# Altium schematic symbol library APM32F103VET6原理图库.SchLib: 12 symbols
Pins are listed as number, name and electrical type; pins without a type are passive.

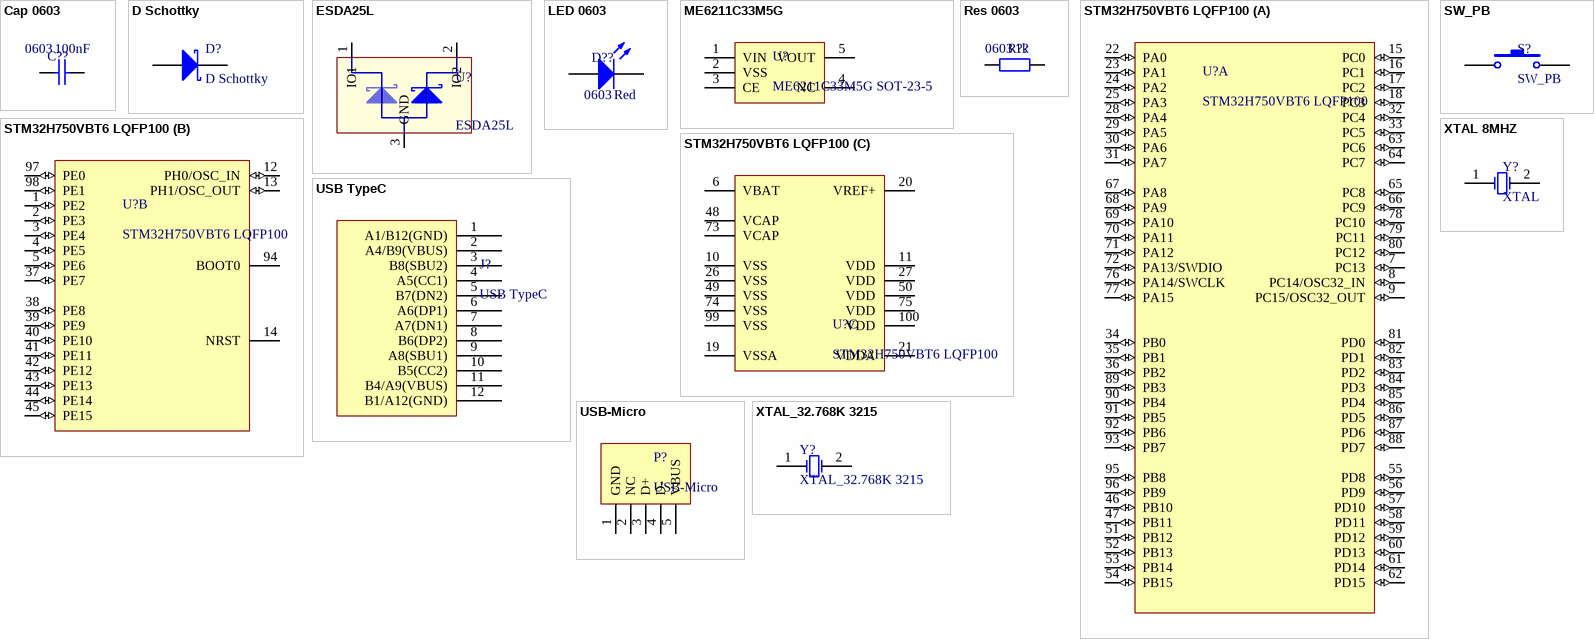
[diagram p0: symbols Cap 0603 to XTAL_32.768K 3215]

## Cap 0603
designator C??  value 100nF  footprint: 0603  (hidden comment: Cap 0603)
Capacitor 0603
footprint R0603-R/C-Y
pins: 1, 2

## D Schottky
designator D?
footprint SOD123
pins: 1 A, 2 K

## ESDA25L
designator U?
footprint SOT-23-3
pins: 1 IO1, 2 IO2, 3 GND

## LED 0603
designator D??  value Red  Footprint: 0603  (hidden comment: LED 0603)
footprint 0603-LED-G
pins: 1 A, 2 K

## ME6211C33M5G
designator U?, comment ME6211C33M5G SOT-23-5
footprint SOT-23-5
pins: 1 VIN (power), 2 VSS (power), 3 CE (power), 4 NC (power), 5 VOUT (power)

## Res 0603
designator R??  value 1k  Footprint: 0603  (hidden comment: Res 0603)
Resistor 0603
footprint R0603-R/C-BY
pins: 1, 2

## STM32H750VBT6 LQFP100
designator U?
footprint TQFP100_L (Thin QFP, 100-Leads, Body 14x14mm, Pitch 0.5mm, IPC High Density)
part A pins: 7 PC13 (io), 8 PC14/OSC32_IN (io), 9 PC15/OSC32_OUT (io), 15 PC0 (io), 16 PC1 (io), 17 PC2 (io), 18 PC3 (io), 22 PA0 (io), 23 PA1 (io), 24 PA2 (io), 25 PA3 (io), 28 PA4 (io), 29 PA5 (io), 30 PA6 (io), 31 PA7 (io), 32 PC4 (io), 33 PC5 (io), 34 PB0 (io), 35 PB1 (io), 36 PB2 (io), 46 PB10 (io), 47 PB11 (io), 51 PB12 (io), 52 PB13 (io), 53 PB14 (io), 54 PB15 (io), 55 PD8 (io), 56 PD9 (io), 57 PD10 (io), 58 PD11 (io), 59 PD12 (io), 60 PD13 (io), 61 PD14 (io), 62 PD15 (io), 63 PC6 (io), 64 PC7 (io), 65 PC8 (io), 66 PC9 (io), 67 PA8 (io), 68 PA9 (io), 69 PA10 (io), 70 PA11 (io), 71 PA12 (io), 72 PA13/SWDIO (io), 76 PA14/SWCLK (io), 77 PA15 (io), 78 PC10 (io), 79 PC11 (io), 80 PC12 (io), 81 PD0 (io), 82 PD1 (io), 83 PD2 (io), 84 PD3 (io), 85 PD4 (io), 86 PD5 (io), 87 PD6 (io), 88 PD7 (io), 89 PB3 (io), 90 PB4 (io), 91 PB5 (io), 92 PB6 (io), 93 PB7 (io), 95 PB8 (io), 96 PB9 (io)
part B pins: 1 PE2 (io), 2 PE3 (io), 3 PE4 (io), 4 PE5 (io), 5 PE6 (io), 12 PH0/OSC_IN (io), 13 PH1/OSC_OUT (io), 14 NRST, 37 PE7 (io), 38 PE8 (io), 39 PE9 (io), 40 PE10 (io), 41 PE11 (io), 42 PE12 (io), 43 PE13 (io), 44 PE14 (io), 45 PE15 (io), 94 BOOT0, 97 PE0 (io), 98 PE1 (io)
part C pins: 6 VBAT (power), 10 VSS (power), 11 VDD (power), 19 VSSA (power), 20 VREF+ (power), 21 VDDA (power), 26 VSS (power), 27 VDD (power), 48 VCAP (power), 49 VSS (power), 50 VDD (power), 73 VCAP (power), 74 VSS (power), 75 VDD (power), 99 VSS (power), 100 VDD (power)

## SW_PB
designator S?
footprint SW-2Pin
pins: 1, 2

## USB TypeC
designator J?
footprint USB TypeC
pins: 1 A1/B12(GND) (power), 2 A4/B9(VBUS) (power), 3 B8(SBU2) (power), 4 A5(CC1) (power), 5 B7(DN2) (power), 6 A6(DP1) (power), 7 A7(DN1) (power), 8 B6(DP2) (power), 9 A8(SBU1) (power), 10 B5(CC2) (power), 11 B4/A9(VBUS) (power), 12 B1/A12(GND) (power)

## USB-Micro
designator P?
footprint USB Micro
pins: 1 GND (power), 2 NC (power), 3 D+ (power), 4 D- (power), 5 VBUS (power)

## XTAL 8MHZ
designator Y?, comment XTAL
XTAL 8MHZ
footprint XTAL 5032
pins: 1 OSC1, 2 OSC2

## XTAL_32.768K 3215
designator Y?
footprint XTAL 3215
pins: 1 OSC1, 2 OSC2